# Altium schematic symbol library KeebDeck.SchLib: 1 symbol
Pins are listed as number, name and electrical type; pins without a type are passive.

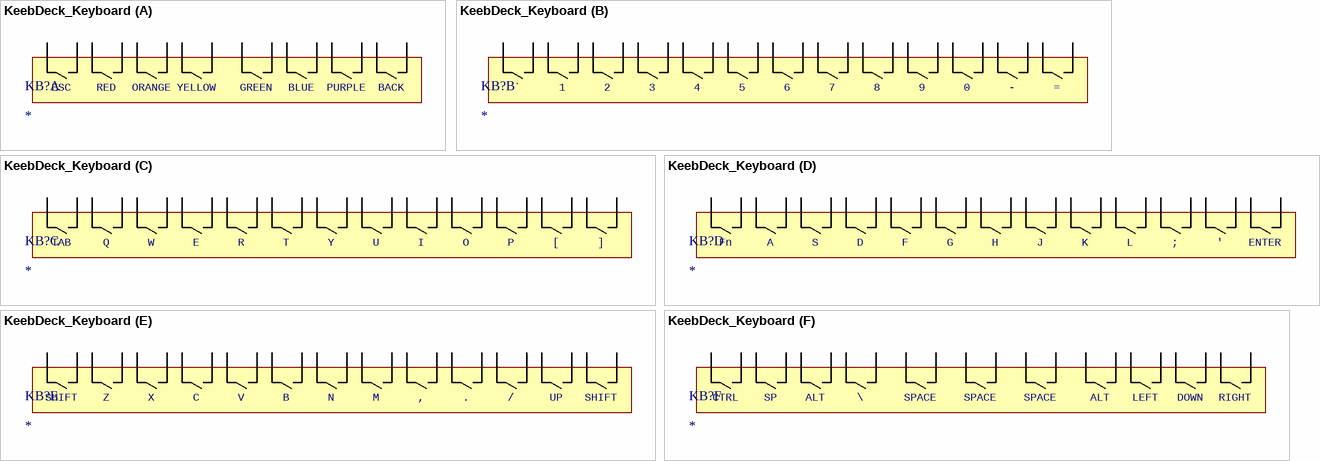
[diagram p0: symbol KeebDeck_Keyboard]

## KeebDeck_Keyboard
designator KB?
part A pins: 1, 2, 3, 4, 5, 6, 7, 8, 9, 10, 11, 12, 13, 14, 15, 16
part B pins: 17, 18, 19, 20, 21, 22, 23, 24, 25, 26, 27, 28, 29, 30, 31, 32, 33, 34, 35, 36, 37, 38, 39, 40, 41, 42
part C pins: 43, 44, 45, 46, 47, 48, 49, 50, 51, 52, 53, 54, 55, 56, 57, 58, 59, 60, 61, 62, 63, 64, 65, 66, 67, 68
part D pins: 69, 70, 71, 72, 73, 74, 75, 76, 77, 78, 79, 80, 81, 82, 83, 84, 85, 86, 87, 88, 89, 90, 91, 92, 93, 94
part E pins: 95, 96, 97, 98, 99, 100, 101, 102, 103, 104, 105, 106, 107, 108, 109, 110, 111, 112, 113, 114, 115, 116, 117, 118, 119, 120
part F pins: 121, 122, 123, 124, 125, 126, 127, 128, 129, 130, 131, 132, 133, 134, 135, 136, 137, 138, 139, 140, 141, 142
part A text: ESC; RED; ORANGE; YELLOW; GREEN; BLUE; PURPLE; BACK
part B text: `; 0; -
part C text: TAB; Q; W; E; R; T; Y; U; I; O; P; [; ]
part D text: Fn; A; S; D; F; G; H; J; K; L; ;; '; ENTER
part E text: SHIFT; Z; X; C; V; B; N; M; ,; .; /; UP
part F text: CTRL; SP; ALT; \; SPACE; LEFT; DOWN; RIGHT